# EAGLE library part NR1-4-9M (library den)
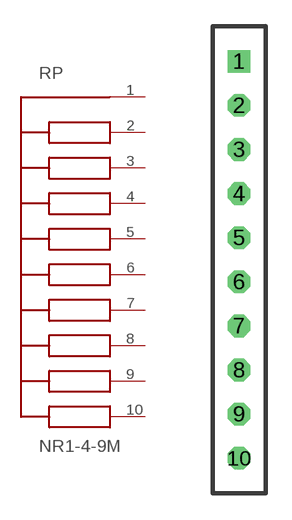
[diagram p18: symbol with the pads of SIP10; footprint SIP10]

Designator prefix RP

## NR1-4-9M  [SIP10]
1  P$1  pas
2  P$2  pas
3  P$3  pas
4  P$4  pas
5  P$5  pas
6  P$6  pas
7  P$7  pas
8  P$8  pas
9  P$9  pas
10  P$10  pas

## Footprint SIP10 (pad centres in mm)
drill 0.8 square: 1 0,12.7
drill 0.8 octagon: 2 0,10.16; 3 0,7.62; 4 0,5.08; 5 0,2.54; 6 0,0; 7 0,-2.54; 8 0,-5.08; 9 0,-7.62; 10 0,-10.16